# EAGLE library part 648010117322 (library Wuerth_Elektronik_eiCan_Wire_to_Board_Connectors v1.2)
WR-WTB 1.50mm Male Horizontal Shrouded Header, 10 Pins
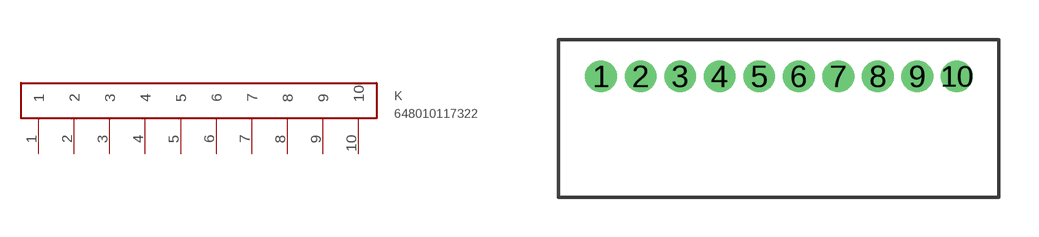
[diagram p80: symbol with the pads of 648010117322; footprint 648010117322]

Designator prefix K

## 648010117322  [648010117322]
1  1
2  2
3  3
4  4
5  5
6  6
7  7
8  8
9  9
10  10

## Footprint 648010117322 (pad centres in mm)
WR-WTB 1.50mm Male Horizontal Shrouded Header, 10 Pins
drill 0.7 round: 1 -0.75,0; 2 0.75,0; 3 2.25,0; 4 3.75,0; 5 5.25,0; 6 6.75,0; 7 8.25,0; 8 9.75,0; 9 11.25,0; 10 12.75,0